# EAGLE library part FSUSB30MUX (library Fairchild_By_element14_Batch_1)
Low Power teo port High speed USB 2.0 Switch
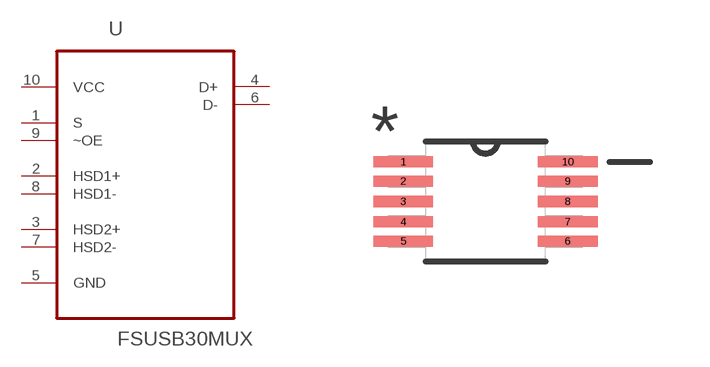
[diagram p198: symbol with the pads of SOP50P490X110-10N; footprint SOP50P490X110-10N]

Designator prefix U

## FSUSB30MUX (MPN: FSUSB30MUX; OC_FARNELL: 1495465; OC_NEWARK: 20M1242; PACKAGE: MSOP-10; SUPPLIER: FAIRCHILD SEMICONDUCTOR)  [SOP50P490X110-10N]
1  S  in
2  HSD1+
3  HSD2+
4  D+
5  GND  pas
6  D-
7  HSD2-
8  HSD1-
9  ~OE  in
10  VCC  pwr

## Footprint SOP50P490X110-10N (pad centres in mm)
smd 1.499 x 0.279: 1 -2.057,0.991; 2 -2.057,0.508; 3 -2.057,0; 4 -2.057,-0.508; 5 -2.057,-0.991; 6 2.057,-0.991; 7 2.057,-0.508; 8 2.057,0; 9 2.057,0.508; 10 2.057,0.991